# Altium schematic symbol library OTGW01_rev1.SchLib: 25 symbols
Pins are listed as number, name and electrical type; pins without a type are passive.

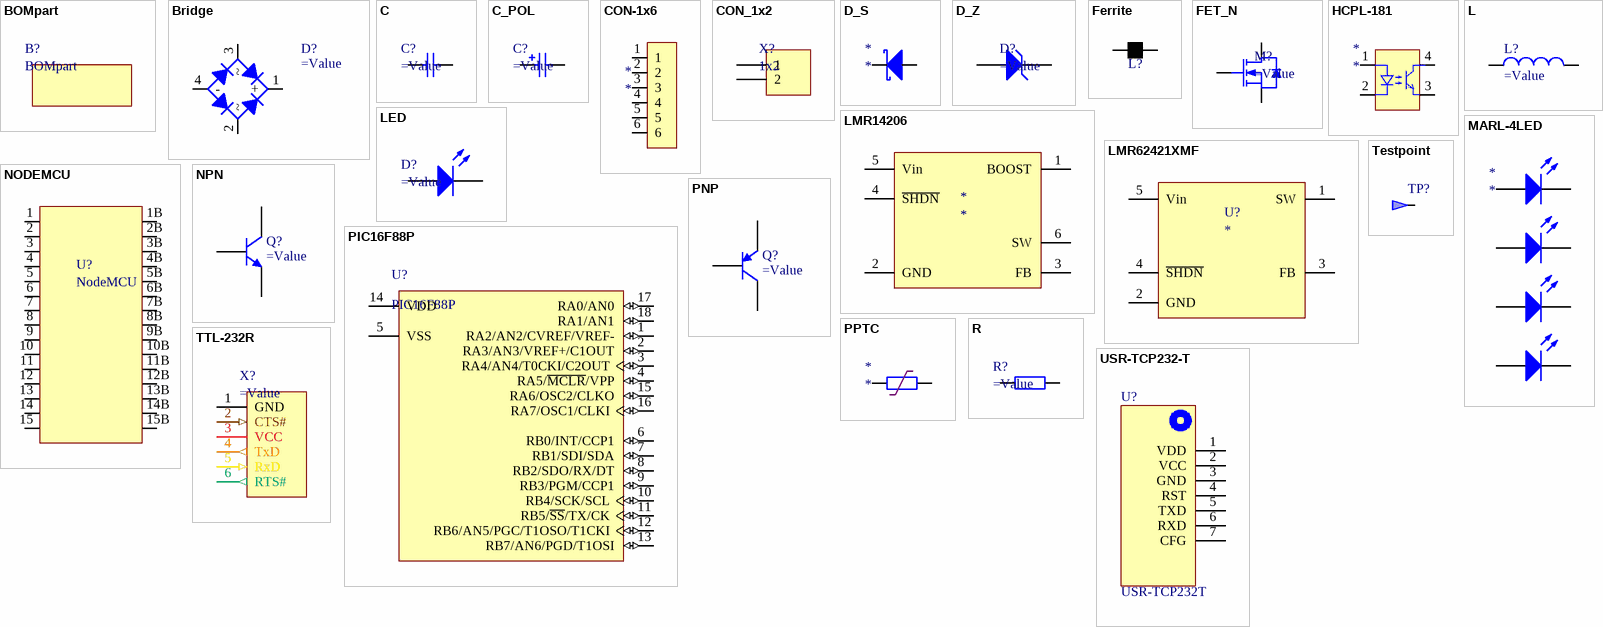
[diagram p0: symbols BOMpart to USR-TCP232-T]

## BOMpart
designator B?

## Bridge
designator D?
Full Wave Diode Bridge
simulation model BRIDGE (Spice Subcircuit)
pins: 1 +, 2 ~, 3 ~, 4 -

## C
designator C?
Capacitor Non Polarized
simulation model CAP (Default semiconductor capacitor)
pins: 1, 2

## C_POL
designator C?
Capacitor Polarized
pins: 1, 2

## CON-1x6
designator *
pins: 1, 2, 3, 4, 5, 6

## CON_1x2
designator X?, comment 1x2
footprint Terminal_2x3.5mm
pins: 1, 2

## D_S
designator *
pins: 1, 2

## D_Z
designator D?
Zener Diode
pins: 1 Cathode, 2 Anode

## Ferrite
designator L?
Ferrite bead
pins: 1 IN, 2 OUT

## FET_N
designator M?
pins: 1 G, 2 D, 3 S

## HCPL-181
designator *
pins: 1 A, 2 B, 3 C, 4 D

## L
designator L?
L
pins: 1, 2

## LED
designator D?
LED
pins: 1 A, 2 K

## LMR14206
designator *
pins: 1 BOOST, 2 GND (power), 3 FB, 4 ~{SHDN}, 5 Vin, 6 SW

## LMR62421XMF
designator U?
pins: 1 SW, 2 GND (power), 3 FB, 4 ~{SHDN}, 5 Vin

## MARL-4LED
designator *
pins: 1 A, 2 K, 3 A, 4 K, 5 A, 6 K, 7 A, 8 K

## NODEMCU
designator U?, comment NodeMCU
pins: 1, 1B, 2, 2B, 3, 3B, 4, 4B, 5, 5B, 6, 6B, 7, 7B, 8, 8B, 9, 9B, 10, 10B, 11, 11B, 12, 12B, 13, 13B, 14, 14B, 15, 15B

## NPN
designator Q?
NPN Medium Power Transistor
pins: 1 E, 2 C, 3 B

## PIC16F88P
designator U?
pins: 1 RA2/AN2/CVREF/VREF- (io), 2 RA3/AN3/VREF+/C1OUT (io), 3 RA4/AN4/T0CKI/C2OUT (io), 4 RA5/~{MCLR}/VPP (io), 5 VSS (power), 6 RB0/INT/CCP1 (io), 7 RB1/SDI/SDA (io), 8 RB2/SDO/RX/DT (io), 9 RB3/PGM/CCP1 (io), 10 RB4/SCK/SCL (io), 11 RB5/~{SS}/TX/CK (io), 12 RB6/AN5/PGC/T1OSO/T1CKI (io), 13 RB7/AN6/PGD/T1OSI (io), 14 VDD (power), 15 RA6/OSC2/CLKO (io), 16 RA7/OSC1/CLKI (io), 17 RA0/AN0 (io), 18 RA1/AN1 (io)

## PNP
designator Q?
PNP Medium Power Transistor
pins: 1 B, 2 E, 3 C

## PPTC
designator *
footprint 1210F (PPTC)
pins: 1, 2

## R
designator R?
Resistor
pins: 1, 2

## Testpoint
designator TP?, comment TP  (value not drawn)  (no BOM)
footprint TestPoint_1.6
pins: 1 TP

## TTL-232R
designator X?
FTDI cable TTL232R footprint
pins: 1 GND (power) "Ground", 2 CTS# (in), 3 VCC (power) "5VDC", 4 TxD (out) "5VDC", 5 RxD (in), 6 RTS# (out)

## USR-TCP232-T
designator U?, comment USR-TCP232T
pins: 1 VDD, 2 VCC, 3 GND, 4 RST, 5 TXD, 6 RXD, 7 CFG